# EAGLE library part CONNECTOR-6_?_* (library HyTechDevices - ECX_42)
6 Pin Connector
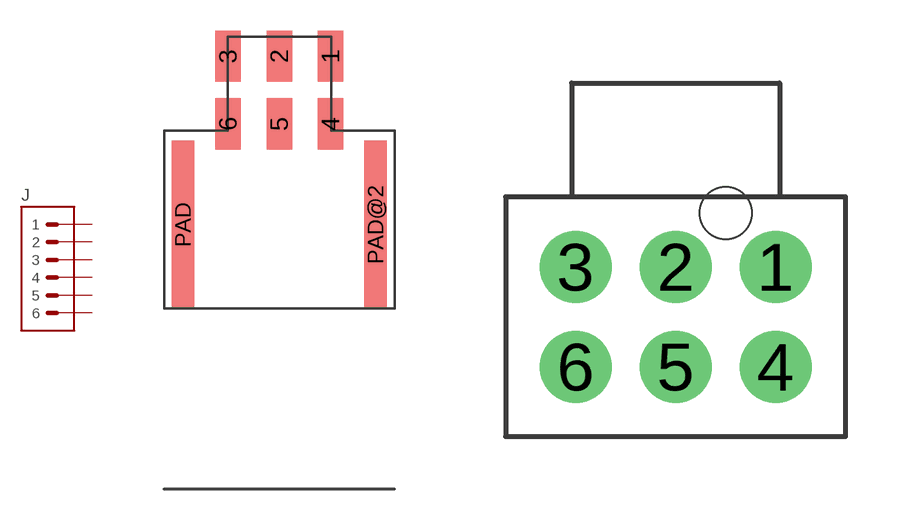
[diagram p11: symbol with the pads of MOLEX_NANOFIT_SMD_RIGHTANGLE_06; footprints MOLEX_NANOFIT_SMD_RIGHTANGLE_06, MOLEX_NANOFIT_PTH_06]

Designator prefix J

## CONNECTOR-6_NF_S_RA_BLACK (MANUFACTURER: Molex; MODEL: NF_S_RA_B; MPN: 105405-1306)  [MOLEX_NANOFIT_SMD_RIGHTANGLE_06]
1  1  pas
2  2  pas
3  3  pas
4  4  pas
5  5  pas
6  6  pas

## CONNECTOR-6_NF_T_V_BLACK (MANUFACTURER: Molex; MODEL: NF_T_V_B; MPN: 105310-1306)  [MOLEX_NANOFIT_PTH_06]
Pads as for MOLEX_NANOFIT_SMD_RIGHTANGLE_06

## Footprint MOLEX_NANOFIT_SMD_RIGHTANGLE_06 (pad centres in mm)
6 Pin Nano-Fit Vertical Header, PCB Mount, Dual Row Part <https://www.molex.com/molex/products/part-detail/pcb_headers/1054051206> Footprint <https://www.molex.com/pdm_docs/sd/1054051206_sd.pdf>
smd 1.24 x 2.5: 1 2.5,1.65; 2 0,1.65; 3 -2.5,1.65; 4 2.5,-1.65; 5 0,-1.65; 6 -2.5,-1.65
smd 1.1 x 8.2: PAD -4.7,-6.58; PAD@2 4.7,-6.58

## Footprint MOLEX_NANOFIT_PTH_06 (pad centres in mm)
6 Pin Nano-Fit™ Vertical Header, Through Hole, Dual Row Part <https://www.molex.com/molex/products/part-detail/pcb_headers/1053101206> Footprint <https://www.molex.com/pdm_docs/sd/1053101206_sd.pdf>
drill 1.2: 1 2.5,0; 2 0,0; 3 -2.5,0; 4 2.5,-2.5; 5 0,-2.5; 6 -2.5,-2.5
hole 1.3 at 1.25,1.34